# EAGLE library part SOLARCOMPONENTS_SVP1040 (library SolarPowerBoard)
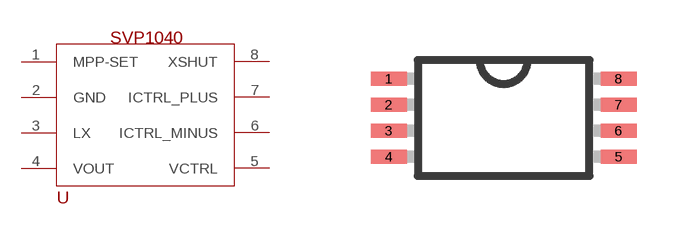
[diagram p6: symbol with the pads of SOLARCOMPONENTS_TSSOP-8; footprint SOLARCOMPONENTS_TSSOP-8]

Designator prefix -

## SOLARCOMPONENTS_SVP1040  [SOLARCOMPONENTS_TSSOP-8]
1  MPP-SET
2  GND
3  LX
4  VOUT
5  VCTRL
6  ICTRL_MINUS
7  ICTRL_PLUS
8  XSHUT

## Footprint SOLARCOMPONENTS_TSSOP-8 (pad centres in mm)
8-Lead Thin Shrink Small Outline Package Source: http://www.analog.com/static/imported-files/data_sheets/AD8541_8542_8544.pdf
smd 0.9 x 0.35: 1 -2.875,0.975; 2 -2.875,0.325; 3 -2.875,-0.325; 4 -2.875,-0.975; 5 2.875,-0.975; 6 2.875,-0.325; 7 2.875,0.325; 8 2.875,0.975